# EAGLE library part M.2-SOM-BREAKOUT-BOARD-V0.3_M.2-SOM-BREAKOUT-BOARD-V0.2-0228_PARTICLE-SZ_PARTICLE-POWER-MODULE (library M.2 SoM breakout board V1.0)
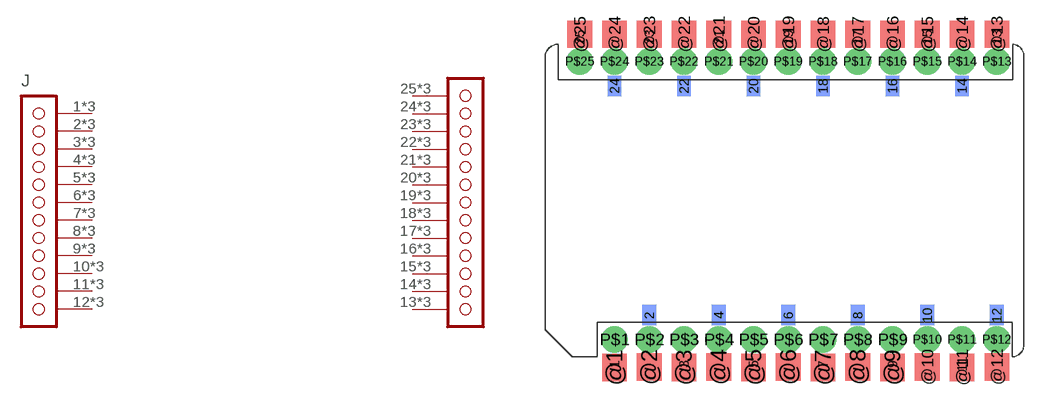
[diagram p0: symbol with the pads of M.2-SOM-BREAKOUT-BOARD-V0.3_M.2-SOM-BREAKOUT-BOARD-V0.2-0228_PARTICLE-SZ_PARTICLE-POWER-MODULE; footprint M.2-SOM-BREAKOUT-BOARD-V0.3_M.2-SOM-BREAKOUT-BOARD-V0.2-0228_PARTICLE-SZ_PARTICLE-POWER-MODULE]

Designator prefix J

## M.2-SOM-BREAKOUT-BOARD-V0.3_M.2-SOM-BREAKOUT-BOARD-V0.2-0228_PARTICLE-SZ_PARTICLE-POWER-MODULE  [M.2-SOM-BREAKOUT-BOARD-V0.3_M.2-SOM-BREAKOUT-BOARD-V0.2-0228_PARTICLE-SZ_PARTICLE-POWER-MODULE]
1  3V3  pas
2  3V3  pas
3  5DC  pas
4  5DC  pas
5  VCC  pas
6  VCC  pas
7  REGN  pas
8  NC  pas
9  GND  pas
10  GND  pas
11  VIN  pas
12  VIN  pas
13  CHG  pas
14  SCL  pas
15  SDA  pas
16  !FUEL-INT  pas
17  TS  pas
18  VBAT  pas
19  VBAT  pas
20  VBAT  pas
21  GND  pas
22  GND  pas
23  !RST  pas
24  PG  pas
25  ENABLE  pas
@1  3V3  pas
@2  3V3  pas
@3  5DC  pas
@4  5DC  pas
@5  VCC  pas
@6  VCC  pas
@7  REGN  pas
@8  NC  pas
@9  GND  pas
@10  GND  pas
@11  VIN  pas
@12  VIN  pas
@13  CHG  pas
@14  SCL  pas
@15  SDA  pas
@16  !FUEL-INT  pas
@17  TS  pas
@18  VBAT  pas
@19  VBAT  pas
@20  VBAT  pas
@21  GND  pas
@22  GND  pas
@23  !RST  pas
@24  PG  pas
@25  ENABLE  pas
P$1  3V3  pas
P$2  3V3  pas
P$3  5DC  pas
P$4  5DC  pas
P$5  VCC  pas
P$6  VCC  pas
P$7  REGN  pas
P$8  NC  pas
P$9  GND  pas
P$10  GND  pas
P$11  VIN  pas
P$12  VIN  pas
P$13  CHG  pas
P$14  SCL  pas
P$15  SDA  pas
P$16  !FUEL-INT  pas
P$17  TS  pas
P$18  VBAT  pas
P$19  VBAT  pas
P$20  VBAT  pas
P$21  GND  pas
P$22  GND  pas
P$23  !RST  pas
P$24  PG  pas
P$25  ENABLE  pas

## Footprint M.2-SOM-BREAKOUT-BOARD-V0.3_M.2-SOM-BREAKOUT-BOARD-V0.2-0228_PARTICLE-SZ_PARTICLE-POWER-MODULE (pad centres in mm)
smd 1 x 1.5 bottom: 1 5.08,-0.512; 2 7.62,3.052; 3 10.16,-0.512; 4 12.7,3.052; 5 15.24,-0.512; 6 17.78,3.052; 7 20.32,-0.512; 8 22.86,3.052; 9 25.4,-0.512; 10 27.94,3.052; 11 30.48,-0.512; 12 33.02,3.052; 13 33.02,23.372; 14 30.48,19.808; 15 27.94,23.372; 16 25.4,19.808; 17 22.86,23.372; 18 20.32,19.808; 19 17.78,23.372; 20 15.24,19.808; 21 12.7,23.372; 22 10.16,19.808; 23 7.62,23.372; 24 5.08,19.808; 25 2.54,23.372
smd 1.8 x 2: @1 5.08,-0.762; @2 7.62,-0.73; @3 10.16,-0.762; @4 12.7,-0.73; @5 15.24,-0.762; @6 17.78,-0.73; @7 20.32,-0.762; @8 22.86,-0.73; @9 25.4,-0.762; @10 27.94,-0.73; @11 30.48,-0.762; @12 33.02,-0.73; @13 33.02,23.59; @14 30.48,23.59; @15 27.94,23.59; @16 25.4,23.59; @17 22.86,23.59; @18 20.32,23.59; @19 17.78,23.59; @20 15.24,23.59; @21 12.7,23.59; @22 10.16,23.59; @23 7.62,23.59; @24 5.08,23.59; @25 2.54,23.59
drill 1.3 pad 1.8: P$1 5.08,1.27; P$2 7.62,1.27; P$3 10.16,1.27; P$4 12.7,1.27; P$5 15.24,1.27; P$6 17.78,1.27; P$7 20.32,1.27; P$8 22.86,1.27; P$9 25.4,1.27; P$10 27.94,1.27; P$11 30.48,1.27; P$12 33.02,1.27; P$13 33.02,21.59; P$14 30.48,21.59; P$15 27.94,21.59; P$16 25.4,21.59; P$17 22.86,21.59; P$18 20.32,21.59; P$19 17.78,21.59; P$20 15.24,21.59; P$21 12.7,21.59; P$22 10.16,21.59; P$23 7.62,21.59; P$24 5.08,21.59; P$25 2.54,21.59